# Altium footprint library Connector_PinSocket_1.00mm.PcbLib: 156 footprints (part 6 of 10)
Each footprint in its own frame and in the unit in brackets; x right, y up, seen from the top. Pads: shape width x height; smd on the part's side, far side on the other; paste and mask are expansions set on the pad; w line width, h text height; cw(c..) or ccw(c..) is an arc to the next point about the centre after c.
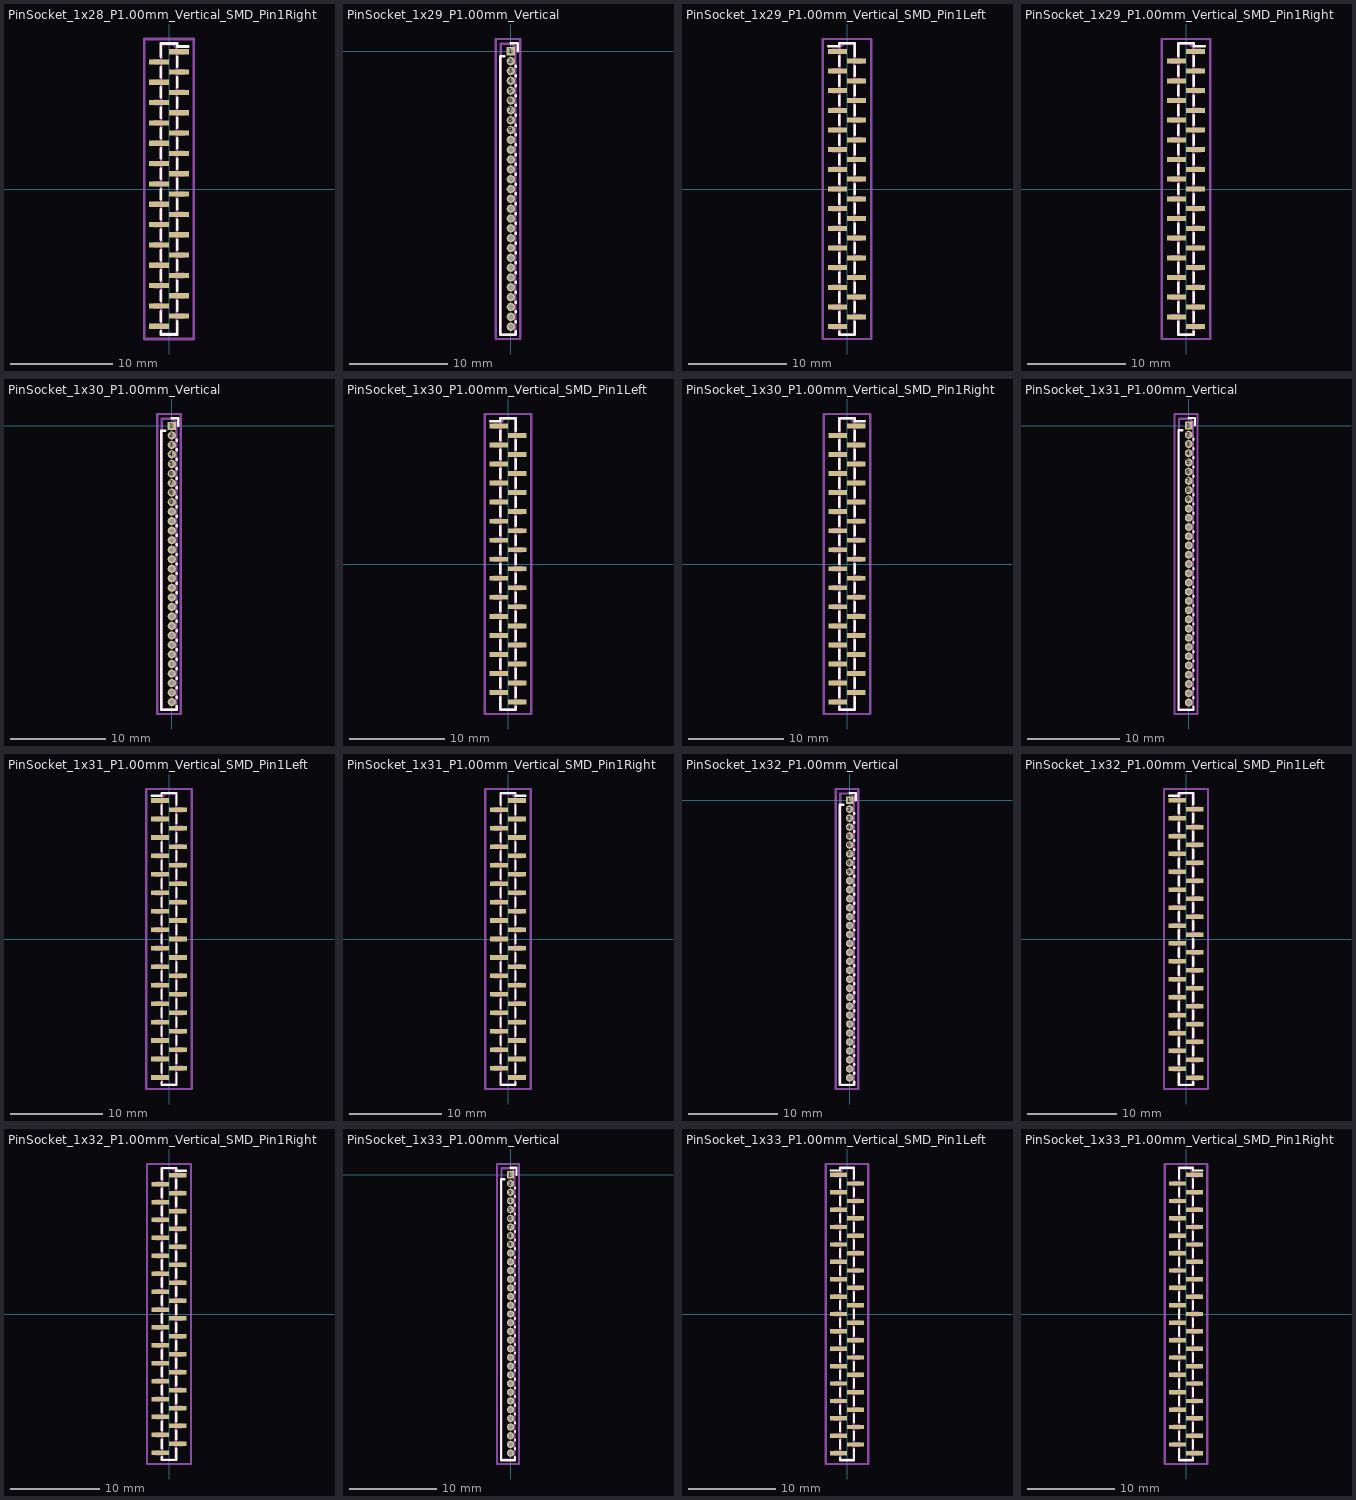
[diagram p5: the footprints below, top view; thin cyan lines are the x and y axes]

## PinSocket_1x28_P1.00mm_Vertical_SMD_Pin1Right [mm]
pads (28):
  rect 1.95x0.5 smd: 1(0.975,13.5) 2(-0.975,12.5) 3(0.975,11.5) 4(-0.975,10.5) 5(0.975,9.5) 6(-0.975,8.5) 7(0.975,7.5) 8(-0.975,6.5) 9(0.975,5.5) 10(-0.975,4.5) 11(0.975,3.5) 12(-0.975,2.5) 13(0.975,1.5) 14(-0.975,0.5) 15(0.975,-0.5) 16(-0.975,-1.5) 17(0.975,-2.5) 18(-0.975,-3.5) 19(0.975,-4.5) 20(-0.975,-5.5) 21(0.975,-6.5) 22(-0.975,-7.5) 23(0.975,-8.5) 24(-0.975,-9.5) 25(0.975,-10.5) 26(-0.975,-11.5) 27(0.975,-12.5) 28(-0.975,-13.5)
F.SilkS:
  lines w0.254: -0.81,-14.01 -0.81,-14.31 0.81,-14.31 0.81,-13.01 ; -0.81,-12.99 -0.81,-12.01 ; -0.81,-10.99 -0.81,-10.01 ; -0.81,-8.99 -0.81,-8.01 ; -0.81,-6.99 -0.81,-6.01 ; -0.81,-4.99 -0.81,-4.01 ; -0.81,-2.99 -0.81,-2.01 ; -0.81,-0.99 -0.81,-0.01 ; -0.81,1.01 -0.81,1.99 ; -0.81,3.01 -0.81,3.99 ; -0.81,5.01 -0.81,5.99 ; -0.81,7.01 -0.81,7.99 ; -0.81,9.01 -0.81,9.99 ; -0.81,11.01 -0.81,11.99 ; -0.81,13.01 -0.81,14.31 0.81,14.31 0.81,14.01 1.89,14.01 ; 0.81,-11.99 0.81,-11.01 ; 0.81,-9.99 0.81,-9.01 ; 0.81,-7.99 0.81,-7.01 ; 0.81,-5.99 0.81,-5.01 ; 0.81,-3.99 0.81,-3.01 ; 0.81,-1.99 0.81,-1.01 ; 0.81,0.01 0.81,0.99 ; 0.81,2.01 0.81,2.99 ; 0.81,4.01 0.81,4.99 ; 0.81,6.01 0.81,6.99 ; 0.81,8.01 0.81,8.99 ; 0.81,10.01 0.81,10.99 ; 0.81,12.01 0.81,12.99
Top Assembly:
  lines w0.254: -0.75,-13.65 -1.45,-13.65 -1.45,-13.35 -0.75,-13.35 ; -0.75,-11.65 -1.45,-11.65 -1.45,-11.35 -0.75,-11.35 ; -0.75,-9.65 -1.45,-9.65 -1.45,-9.35 -0.75,-9.35 ; -0.75,-7.65 -1.45,-7.65 -1.45,-7.35 -0.75,-7.35 ; -0.75,-5.65 -1.45,-5.65 -1.45,-5.35 -0.75,-5.35 ; -0.75,-3.65 -1.45,-3.65 -1.45,-3.35 -0.75,-3.35 ; -0.75,-1.65 -1.45,-1.65 -1.45,-1.35 -0.75,-1.35 ; -0.75,0.35 -1.45,0.35 -1.45,0.65 -0.75,0.65 ; -0.75,2.35 -1.45,2.35 -1.45,2.65 -0.75,2.65 ; -0.75,4.35 -1.45,4.35 -1.45,4.65 -0.75,4.65 ; -0.75,6.35 -1.45,6.35 -1.45,6.65 -0.75,6.65 ; -0.75,8.35 -1.45,8.35 -1.45,8.65 -0.75,8.65 ; -0.75,10.35 -1.45,10.35 -1.45,10.65 -0.75,10.65 ; -0.75,12.35 -1.45,12.35 -1.45,12.65 -0.75,12.65 ; 0.75,-12.65 1.45,-12.65 1.45,-12.35 0.75,-12.35 ; 0.75,-10.65 1.45,-10.65 1.45,-10.35 0.75,-10.35 ; 0.75,-8.65 1.45,-8.65 1.45,-8.35 0.75,-8.35 ; 0.75,-6.65 1.45,-6.65 1.45,-6.35 0.75,-6.35 ; 0.75,-4.65 1.45,-4.65 1.45,-4.35 0.75,-4.35 ; 0.75,-2.65 1.45,-2.65 1.45,-2.35 0.75,-2.35 ; 0.75,-0.65 1.45,-0.65 1.45,-0.35 0.75,-0.35 ; 0.75,1.35 1.45,1.35 1.45,1.65 0.75,1.65 ; 0.75,3.35 1.45,3.35 1.45,3.65 0.75,3.65 ; 0.75,5.35 1.45,5.35 1.45,5.65 0.75,5.65 ; 0.75,7.35 1.45,7.35 1.45,7.65 0.75,7.65 ; 0.75,9.35 1.45,9.35 1.45,9.65 0.75,9.65 ; 0.75,11.35 1.45,11.35 1.45,11.65 0.75,11.65 ; 0.75,13.35 1.45,13.35 1.45,13.65 0.75,13.65 ; -0.75,-14.25 0.75,-14.25 0.75,13.875 0.375,14.25 -0.75,14.25 -0.75,-14.25
  text "'.Designator'" at 0.761,-3.647 h0.9
Top Courtyard:
  lines w0.254: -2.45,-14.75 2.45,-14.75 2.45,14.75 -2.45,14.75 -2.45,-14.75
Top Designator:
  text ".Designator" at -7.618,-0.508 h1.52

## PinSocket_1x29_P1.00mm_Vertical [mm]
pads (29):
  rect 0.85x0.85 hole 0.5: 1(0,0)
  round 0.85 hole 0.5: 2(0,-1) 3(0,-2) 4(0,-3) 5(0,-4) 6(0,-5) 7(0,-6) 8(0,-7) 9(0,-8) 10(0,-9) 11(0,-10) 12(0,-11) 13(0,-12) 14(0,-13) 15(0,-14) 16(0,-15) 17(0,-16) 18(0,-17) 19(0,-18) 20(0,-19) 21(0,-20) 22(0,-21) 23(0,-22) 24(0,-23) 25(0,-24) 26(0,-25) 27(0,-26) 28(0,-27) 29(0,-28)
F.SilkS:
  lines w0.254: -0.685,-0.5 -1.1,-0.5 -1.1,-28.81 0.52,-28.81 0.52,-28.446 ; 0,0.81 0.685,0.81 0.685,0 ; 0.52,-27.554 0.52,-27.446 ; 0.52,-26.554 0.52,-26.446 ; 0.52,-25.554 0.52,-25.446 ; 0.52,-24.554 0.52,-24.446 ; 0.52,-23.554 0.52,-23.446 ; 0.52,-22.554 0.52,-22.446 ; 0.52,-21.554 0.52,-21.446 ; 0.52,-20.554 0.52,-20.446 ; 0.52,-19.554 0.52,-19.446 ; 0.52,-18.554 0.52,-18.446 ; 0.52,-17.554 0.52,-17.446 ; 0.52,-16.554 0.52,-16.446 ; 0.52,-15.554 0.52,-15.446 ; 0.52,-14.554 0.52,-14.446 ; 0.52,-13.554 0.52,-13.446 ; 0.52,-12.554 0.52,-12.446 ; 0.52,-11.554 0.52,-11.446 ; 0.52,-10.554 0.52,-10.446 ; 0.52,-9.554 0.52,-9.446 ; 0.52,-8.554 0.52,-8.446 ; 0.52,-7.554 0.52,-7.446 ; 0.52,-6.554 0.52,-6.446 ; 0.52,-5.554 0.52,-5.446 ; 0.52,-4.554 0.52,-4.446 ; 0.52,-3.554 0.52,-3.446 ; 0.52,-2.554 0.52,-2.446 ; 0.52,-1.554 0.52,-1.446
Top Assembly:
  lines w0.254: -1.04,-28.75 0.46,-28.75 0.46,0.375 0.085,0.75 -1.04,0.75 -1.04,-28.75
  text "'.Designator'" at 0.471,-17.647 h0.9
Top Courtyard:
  lines w0.254: -1.54,-29.25 0.96,-29.25 0.96,1.25 -1.54,1.25 -1.54,-29.25
Top Designator:
  text ".Designator" at -7.908,-14.508 h1.52

## PinSocket_1x29_P1.00mm_Vertical_SMD_Pin1Left [mm]
pads (29):
  rect 1.95x0.5 smd: 1(-0.975,14) 2(0.975,13) 3(-0.975,12) 4(0.975,11) 5(-0.975,10) 6(0.975,9) 7(-0.975,8) 8(0.975,7) 9(-0.975,6) 10(0.975,5) 11(-0.975,4) 12(0.975,3) 13(-0.975,2) 14(0.975,1) 15(-0.975,0) 16(0.975,-1) 17(-0.975,-2) 18(0.975,-3) 19(-0.975,-4) 20(0.975,-5) 21(-0.975,-6) 22(0.975,-7) 23(-0.975,-8) 24(0.975,-9) 25(-0.975,-10) 26(0.975,-11) 27(-0.975,-12) 28(0.975,-13) 29(-0.975,-14)
F.SilkS:
  lines w0.254: -1.89,14.51 -0.81,14.51 -0.81,14.81 0.81,14.81 0.81,13.51 ; -0.81,-14.51 -0.81,-14.81 0.81,-14.81 0.81,-13.51 ; -0.81,-13.49 -0.81,-12.51 ; -0.81,-11.49 -0.81,-10.51 ; -0.81,-9.49 -0.81,-8.51 ; -0.81,-7.49 -0.81,-6.51 ; -0.81,-5.49 -0.81,-4.51 ; -0.81,-3.49 -0.81,-2.51 ; -0.81,-1.49 -0.81,-0.51 ; -0.81,0.51 -0.81,1.49 ; -0.81,2.51 -0.81,3.49 ; -0.81,4.51 -0.81,5.49 ; -0.81,6.51 -0.81,7.49 ; -0.81,8.51 -0.81,9.49 ; -0.81,10.51 -0.81,11.49 ; -0.81,12.51 -0.81,13.49 ; 0.81,-12.49 0.81,-11.51 ; 0.81,-10.49 0.81,-9.51 ; 0.81,-8.49 0.81,-7.51 ; 0.81,-6.49 0.81,-5.51 ; 0.81,-4.49 0.81,-3.51 ; 0.81,-2.49 0.81,-1.51 ; 0.81,-0.49 0.81,0.49 ; 0.81,1.51 0.81,2.49 ; 0.81,3.51 0.81,4.49 ; 0.81,5.51 0.81,6.49 ; 0.81,7.51 0.81,8.49 ; 0.81,9.51 0.81,10.49 ; 0.81,11.51 0.81,12.49
Top Assembly:
  lines w0.254: -0.75,-14.15 -1.45,-14.15 -1.45,-13.85 -0.75,-13.85 ; -0.75,-12.15 -1.45,-12.15 -1.45,-11.85 -0.75,-11.85 ; -0.75,-10.15 -1.45,-10.15 -1.45,-9.85 -0.75,-9.85 ; -0.75,-8.15 -1.45,-8.15 -1.45,-7.85 -0.75,-7.85 ; -0.75,-6.15 -1.45,-6.15 -1.45,-5.85 -0.75,-5.85 ; -0.75,-4.15 -1.45,-4.15 -1.45,-3.85 -0.75,-3.85 ; -0.75,-2.15 -1.45,-2.15 -1.45,-1.85 -0.75,-1.85 ; -0.75,-0.15 -1.45,-0.15 -1.45,0.15 -0.75,0.15 ; -0.75,1.85 -1.45,1.85 -1.45,2.15 -0.75,2.15 ; -0.75,3.85 -1.45,3.85 -1.45,4.15 -0.75,4.15 ; -0.75,5.85 -1.45,5.85 -1.45,6.15 -0.75,6.15 ; -0.75,7.85 -1.45,7.85 -1.45,8.15 -0.75,8.15 ; -0.75,9.85 -1.45,9.85 -1.45,10.15 -0.75,10.15 ; -0.75,11.85 -1.45,11.85 -1.45,12.15 -0.75,12.15 ; -0.75,13.85 -1.45,13.85 -1.45,14.15 -0.75,14.15 ; 0.75,-13.15 1.45,-13.15 1.45,-12.85 0.75,-12.85 ; 0.75,-11.15 1.45,-11.15 1.45,-10.85 0.75,-10.85 ; 0.75,-9.15 1.45,-9.15 1.45,-8.85 0.75,-8.85 ; 0.75,-7.15 1.45,-7.15 1.45,-6.85 0.75,-6.85 ; 0.75,-5.15 1.45,-5.15 1.45,-4.85 0.75,-4.85 ; 0.75,-3.15 1.45,-3.15 1.45,-2.85 0.75,-2.85 ; 0.75,-1.15 1.45,-1.15 1.45,-0.85 0.75,-0.85 ; 0.75,0.85 1.45,0.85 1.45,1.15 0.75,1.15 ; 0.75,2.85 1.45,2.85 1.45,3.15 0.75,3.15 ; 0.75,4.85 1.45,4.85 1.45,5.15 0.75,5.15 ; 0.75,6.85 1.45,6.85 1.45,7.15 0.75,7.15 ; 0.75,8.85 1.45,8.85 1.45,9.15 0.75,9.15 ; 0.75,10.85 1.45,10.85 1.45,11.15 0.75,11.15 ; 0.75,12.85 1.45,12.85 1.45,13.15 0.75,13.15 ; -0.75,-14.75 0.75,-14.75 0.75,14.75 -0.375,14.75 -0.75,14.375 -0.75,-14.75
  text "'.Designator'" at 0.761,-3.647 h0.9
Top Courtyard:
  lines w0.254: -2.45,-15.25 2.45,-15.25 2.45,15.25 -2.45,15.25 -2.45,-15.25
Top Designator:
  text ".Designator" at -7.618,-0.508 h1.52

## PinSocket_1x29_P1.00mm_Vertical_SMD_Pin1Right [mm]
pads (29):
  rect 1.95x0.5 smd: 1(0.975,14) 2(-0.975,13) 3(0.975,12) 4(-0.975,11) 5(0.975,10) 6(-0.975,9) 7(0.975,8) 8(-0.975,7) 9(0.975,6) 10(-0.975,5) 11(0.975,4) 12(-0.975,3) 13(0.975,2) 14(-0.975,1) 15(0.975,0) 16(-0.975,-1) 17(0.975,-2) 18(-0.975,-3) 19(0.975,-4) 20(-0.975,-5) 21(0.975,-6) 22(-0.975,-7) 23(0.975,-8) 24(-0.975,-9) 25(0.975,-10) 26(-0.975,-11) 27(0.975,-12) 28(-0.975,-13) 29(0.975,-14)
F.SilkS:
  lines w0.254: -0.81,-13.51 -0.81,-14.81 0.81,-14.81 0.81,-14.51 ; -0.81,-12.49 -0.81,-11.51 ; -0.81,-10.49 -0.81,-9.51 ; -0.81,-8.49 -0.81,-7.51 ; -0.81,-6.49 -0.81,-5.51 ; -0.81,-4.49 -0.81,-3.51 ; -0.81,-2.49 -0.81,-1.51 ; -0.81,-0.49 -0.81,0.49 ; -0.81,1.51 -0.81,2.49 ; -0.81,3.51 -0.81,4.49 ; -0.81,5.51 -0.81,6.49 ; -0.81,7.51 -0.81,8.49 ; -0.81,9.51 -0.81,10.49 ; -0.81,11.51 -0.81,12.49 ; -0.81,13.51 -0.81,14.81 0.81,14.81 0.81,14.51 1.89,14.51 ; 0.81,-13.49 0.81,-12.51 ; 0.81,-11.49 0.81,-10.51 ; 0.81,-9.49 0.81,-8.51 ; 0.81,-7.49 0.81,-6.51 ; 0.81,-5.49 0.81,-4.51 ; 0.81,-3.49 0.81,-2.51 ; 0.81,-1.49 0.81,-0.51 ; 0.81,0.51 0.81,1.49 ; 0.81,2.51 0.81,3.49 ; 0.81,4.51 0.81,5.49 ; 0.81,6.51 0.81,7.49 ; 0.81,8.51 0.81,9.49 ; 0.81,10.51 0.81,11.49 ; 0.81,12.51 0.81,13.49
Top Assembly:
  lines w0.254: -0.75,-13.15 -1.45,-13.15 -1.45,-12.85 -0.75,-12.85 ; -0.75,-11.15 -1.45,-11.15 -1.45,-10.85 -0.75,-10.85 ; -0.75,-9.15 -1.45,-9.15 -1.45,-8.85 -0.75,-8.85 ; -0.75,-7.15 -1.45,-7.15 -1.45,-6.85 -0.75,-6.85 ; -0.75,-5.15 -1.45,-5.15 -1.45,-4.85 -0.75,-4.85 ; -0.75,-3.15 -1.45,-3.15 -1.45,-2.85 -0.75,-2.85 ; -0.75,-1.15 -1.45,-1.15 -1.45,-0.85 -0.75,-0.85 ; -0.75,0.85 -1.45,0.85 -1.45,1.15 -0.75,1.15 ; -0.75,2.85 -1.45,2.85 -1.45,3.15 -0.75,3.15 ; -0.75,4.85 -1.45,4.85 -1.45,5.15 -0.75,5.15 ; -0.75,6.85 -1.45,6.85 -1.45,7.15 -0.75,7.15 ; -0.75,8.85 -1.45,8.85 -1.45,9.15 -0.75,9.15 ; -0.75,10.85 -1.45,10.85 -1.45,11.15 -0.75,11.15 ; -0.75,12.85 -1.45,12.85 -1.45,13.15 -0.75,13.15 ; 0.75,-14.15 1.45,-14.15 1.45,-13.85 0.75,-13.85 ; 0.75,-12.15 1.45,-12.15 1.45,-11.85 0.75,-11.85 ; 0.75,-10.15 1.45,-10.15 1.45,-9.85 0.75,-9.85 ; 0.75,-8.15 1.45,-8.15 1.45,-7.85 0.75,-7.85 ; 0.75,-6.15 1.45,-6.15 1.45,-5.85 0.75,-5.85 ; 0.75,-4.15 1.45,-4.15 1.45,-3.85 0.75,-3.85 ; 0.75,-2.15 1.45,-2.15 1.45,-1.85 0.75,-1.85 ; 0.75,-0.15 1.45,-0.15 1.45,0.15 0.75,0.15 ; 0.75,1.85 1.45,1.85 1.45,2.15 0.75,2.15 ; 0.75,3.85 1.45,3.85 1.45,4.15 0.75,4.15 ; 0.75,5.85 1.45,5.85 1.45,6.15 0.75,6.15 ; 0.75,7.85 1.45,7.85 1.45,8.15 0.75,8.15 ; 0.75,9.85 1.45,9.85 1.45,10.15 0.75,10.15 ; 0.75,11.85 1.45,11.85 1.45,12.15 0.75,12.15 ; 0.75,13.85 1.45,13.85 1.45,14.15 0.75,14.15 ; -0.75,-14.75 0.75,-14.75 0.75,14.375 0.375,14.75 -0.75,14.75 -0.75,-14.75
  text "'.Designator'" at 0.761,-3.647 h0.9
Top Courtyard:
  lines w0.254: -2.45,-15.25 2.45,-15.25 2.45,15.25 -2.45,15.25 -2.45,-15.25
Top Designator:
  text ".Designator" at -7.618,-0.508 h1.52

## PinSocket_1x30_P1.00mm_Vertical [mm]
pads (30):
  rect 0.85x0.85 hole 0.5: 1(0,0)
  round 0.85 hole 0.5: 2(0,-1) 3(0,-2) 4(0,-3) 5(0,-4) 6(0,-5) 7(0,-6) 8(0,-7) 9(0,-8) 10(0,-9) 11(0,-10) 12(0,-11) 13(0,-12) 14(0,-13) 15(0,-14) 16(0,-15) 17(0,-16) 18(0,-17) 19(0,-18) 20(0,-19) 21(0,-20) 22(0,-21) 23(0,-22) 24(0,-23) 25(0,-24) 26(0,-25) 27(0,-26) 28(0,-27) 29(0,-28) 30(0,-29)
F.SilkS:
  lines w0.254: -0.685,-0.5 -1.1,-0.5 -1.1,-29.81 0.52,-29.81 0.52,-29.446 ; 0,0.81 0.685,0.81 0.685,0 ; 0.52,-28.554 0.52,-28.446 ; 0.52,-27.554 0.52,-27.446 ; 0.52,-26.554 0.52,-26.446 ; 0.52,-25.554 0.52,-25.446 ; 0.52,-24.554 0.52,-24.446 ; 0.52,-23.554 0.52,-23.446 ; 0.52,-22.554 0.52,-22.446 ; 0.52,-21.554 0.52,-21.446 ; 0.52,-20.554 0.52,-20.446 ; 0.52,-19.554 0.52,-19.446 ; 0.52,-18.554 0.52,-18.446 ; 0.52,-17.554 0.52,-17.446 ; 0.52,-16.554 0.52,-16.446 ; 0.52,-15.554 0.52,-15.446 ; 0.52,-14.554 0.52,-14.446 ; 0.52,-13.554 0.52,-13.446 ; 0.52,-12.554 0.52,-12.446 ; 0.52,-11.554 0.52,-11.446 ; 0.52,-10.554 0.52,-10.446 ; 0.52,-9.554 0.52,-9.446 ; 0.52,-8.554 0.52,-8.446 ; 0.52,-7.554 0.52,-7.446 ; 0.52,-6.554 0.52,-6.446 ; 0.52,-5.554 0.52,-5.446 ; 0.52,-4.554 0.52,-4.446 ; 0.52,-3.554 0.52,-3.446 ; 0.52,-2.554 0.52,-2.446 ; 0.52,-1.554 0.52,-1.446
Top Assembly:
  lines w0.254: -1.04,-29.75 0.46,-29.75 0.46,0.375 0.085,0.75 -1.04,0.75 -1.04,-29.75
  text "'.Designator'" at 0.471,-18.147 h0.9
Top Courtyard:
  lines w0.254: -1.54,-30.25 0.96,-30.25 0.96,1.25 -1.54,1.25 -1.54,-30.25
Top Designator:
  text ".Designator" at -7.908,-15.008 h1.52

## PinSocket_1x30_P1.00mm_Vertical_SMD_Pin1Left [mm]
pads (30):
  rect 1.95x0.5 smd: 1(-0.975,14.5) 2(0.975,13.5) 3(-0.975,12.5) 4(0.975,11.5) 5(-0.975,10.5) 6(0.975,9.5) 7(-0.975,8.5) 8(0.975,7.5) 9(-0.975,6.5) 10(0.975,5.5) 11(-0.975,4.5) 12(0.975,3.5) 13(-0.975,2.5) 14(0.975,1.5) 15(-0.975,0.5) 16(0.975,-0.5) 17(-0.975,-1.5) 18(0.975,-2.5) 19(-0.975,-3.5) 20(0.975,-4.5) 21(-0.975,-5.5) 22(0.975,-6.5) 23(-0.975,-7.5) 24(0.975,-8.5) 25(-0.975,-9.5) 26(0.975,-10.5) 27(-0.975,-11.5) 28(0.975,-12.5) 29(-0.975,-13.5) 30(0.975,-14.5)
F.SilkS:
  lines w0.254: -1.89,15.01 -0.81,15.01 -0.81,15.31 0.81,15.31 0.81,14.01 ; -0.81,-14.01 -0.81,-15.31 0.81,-15.31 0.81,-15.01 ; -0.81,-12.99 -0.81,-12.01 ; -0.81,-10.99 -0.81,-10.01 ; -0.81,-8.99 -0.81,-8.01 ; -0.81,-6.99 -0.81,-6.01 ; -0.81,-4.99 -0.81,-4.01 ; -0.81,-2.99 -0.81,-2.01 ; -0.81,-0.99 -0.81,-0.01 ; -0.81,1.01 -0.81,1.99 ; -0.81,3.01 -0.81,3.99 ; -0.81,5.01 -0.81,5.99 ; -0.81,7.01 -0.81,7.99 ; -0.81,9.01 -0.81,9.99 ; -0.81,11.01 -0.81,11.99 ; -0.81,13.01 -0.81,13.99 ; 0.81,-13.99 0.81,-13.01 ; 0.81,-11.99 0.81,-11.01 ; 0.81,-9.99 0.81,-9.01 ; 0.81,-7.99 0.81,-7.01 ; 0.81,-5.99 0.81,-5.01 ; 0.81,-3.99 0.81,-3.01 ; 0.81,-1.99 0.81,-1.01 ; 0.81,0.01 0.81,0.99 ; 0.81,2.01 0.81,2.99 ; 0.81,4.01 0.81,4.99 ; 0.81,6.01 0.81,6.99 ; 0.81,8.01 0.81,8.99 ; 0.81,10.01 0.81,10.99 ; 0.81,12.01 0.81,12.99
Top Assembly:
  lines w0.254: -0.75,-13.65 -1.45,-13.65 -1.45,-13.35 -0.75,-13.35 ; -0.75,-11.65 -1.45,-11.65 -1.45,-11.35 -0.75,-11.35 ; -0.75,-9.65 -1.45,-9.65 -1.45,-9.35 -0.75,-9.35 ; -0.75,-7.65 -1.45,-7.65 -1.45,-7.35 -0.75,-7.35 ; -0.75,-5.65 -1.45,-5.65 -1.45,-5.35 -0.75,-5.35 ; -0.75,-3.65 -1.45,-3.65 -1.45,-3.35 -0.75,-3.35 ; -0.75,-1.65 -1.45,-1.65 -1.45,-1.35 -0.75,-1.35 ; -0.75,0.35 -1.45,0.35 -1.45,0.65 -0.75,0.65 ; -0.75,2.35 -1.45,2.35 -1.45,2.65 -0.75,2.65 ; -0.75,4.35 -1.45,4.35 -1.45,4.65 -0.75,4.65 ; -0.75,6.35 -1.45,6.35 -1.45,6.65 -0.75,6.65 ; -0.75,8.35 -1.45,8.35 -1.45,8.65 -0.75,8.65 ; -0.75,10.35 -1.45,10.35 -1.45,10.65 -0.75,10.65 ; -0.75,12.35 -1.45,12.35 -1.45,12.65 -0.75,12.65 ; -0.75,14.35 -1.45,14.35 -1.45,14.65 -0.75,14.65 ; 0.75,-14.65 1.45,-14.65 1.45,-14.35 0.75,-14.35 ; 0.75,-12.65 1.45,-12.65 1.45,-12.35 0.75,-12.35 ; 0.75,-10.65 1.45,-10.65 1.45,-10.35 0.75,-10.35 ; 0.75,-8.65 1.45,-8.65 1.45,-8.35 0.75,-8.35 ; 0.75,-6.65 1.45,-6.65 1.45,-6.35 0.75,-6.35 ; 0.75,-4.65 1.45,-4.65 1.45,-4.35 0.75,-4.35 ; 0.75,-2.65 1.45,-2.65 1.45,-2.35 0.75,-2.35 ; 0.75,-0.65 1.45,-0.65 1.45,-0.35 0.75,-0.35 ; 0.75,1.35 1.45,1.35 1.45,1.65 0.75,1.65 ; 0.75,3.35 1.45,3.35 1.45,3.65 0.75,3.65 ; 0.75,5.35 1.45,5.35 1.45,5.65 0.75,5.65 ; 0.75,7.35 1.45,7.35 1.45,7.65 0.75,7.65 ; 0.75,9.35 1.45,9.35 1.45,9.65 0.75,9.65 ; 0.75,11.35 1.45,11.35 1.45,11.65 0.75,11.65 ; 0.75,13.35 1.45,13.35 1.45,13.65 0.75,13.65 ; -0.75,-15.25 0.75,-15.25 0.75,15.25 -0.375,15.25 -0.75,14.875 -0.75,-15.25
  text "'.Designator'" at 0.761,-3.647 h0.9
Top Courtyard:
  lines w0.254: -2.45,-15.75 2.45,-15.75 2.45,15.75 -2.45,15.75 -2.45,-15.75
Top Designator:
  text ".Designator" at -7.618,-0.508 h1.52

## PinSocket_1x30_P1.00mm_Vertical_SMD_Pin1Right [mm]
pads (30):
  rect 1.95x0.5 smd: 1(0.975,14.5) 2(-0.975,13.5) 3(0.975,12.5) 4(-0.975,11.5) 5(0.975,10.5) 6(-0.975,9.5) 7(0.975,8.5) 8(-0.975,7.5) 9(0.975,6.5) 10(-0.975,5.5) 11(0.975,4.5) 12(-0.975,3.5) 13(0.975,2.5) 14(-0.975,1.5) 15(0.975,0.5) 16(-0.975,-0.5) 17(0.975,-1.5) 18(-0.975,-2.5) 19(0.975,-3.5) 20(-0.975,-4.5) 21(0.975,-5.5) 22(-0.975,-6.5) 23(0.975,-7.5) 24(-0.975,-8.5) 25(0.975,-9.5) 26(-0.975,-10.5) 27(0.975,-11.5) 28(-0.975,-12.5) 29(0.975,-13.5) 30(-0.975,-14.5)
F.SilkS:
  lines w0.254: -0.81,-15.01 -0.81,-15.31 0.81,-15.31 0.81,-14.01 ; -0.81,-13.99 -0.81,-13.01 ; -0.81,-11.99 -0.81,-11.01 ; -0.81,-9.99 -0.81,-9.01 ; -0.81,-7.99 -0.81,-7.01 ; -0.81,-5.99 -0.81,-5.01 ; -0.81,-3.99 -0.81,-3.01 ; -0.81,-1.99 -0.81,-1.01 ; -0.81,0.01 -0.81,0.99 ; -0.81,2.01 -0.81,2.99 ; -0.81,4.01 -0.81,4.99 ; -0.81,6.01 -0.81,6.99 ; -0.81,8.01 -0.81,8.99 ; -0.81,10.01 -0.81,10.99 ; -0.81,12.01 -0.81,12.99 ; -0.81,14.01 -0.81,15.31 0.81,15.31 0.81,15.01 1.89,15.01 ; 0.81,-12.99 0.81,-12.01 ; 0.81,-10.99 0.81,-10.01 ; 0.81,-8.99 0.81,-8.01 ; 0.81,-6.99 0.81,-6.01 ; 0.81,-4.99 0.81,-4.01 ; 0.81,-2.99 0.81,-2.01 ; 0.81,-0.99 0.81,-0.01 ; 0.81,1.01 0.81,1.99 ; 0.81,3.01 0.81,3.99 ; 0.81,5.01 0.81,5.99 ; 0.81,7.01 0.81,7.99 ; 0.81,9.01 0.81,9.99 ; 0.81,11.01 0.81,11.99 ; 0.81,13.01 0.81,13.99
Top Assembly:
  lines w0.254: -0.75,-14.65 -1.45,-14.65 -1.45,-14.35 -0.75,-14.35 ; -0.75,-12.65 -1.45,-12.65 -1.45,-12.35 -0.75,-12.35 ; -0.75,-10.65 -1.45,-10.65 -1.45,-10.35 -0.75,-10.35 ; -0.75,-8.65 -1.45,-8.65 -1.45,-8.35 -0.75,-8.35 ; -0.75,-6.65 -1.45,-6.65 -1.45,-6.35 -0.75,-6.35 ; -0.75,-4.65 -1.45,-4.65 -1.45,-4.35 -0.75,-4.35 ; -0.75,-2.65 -1.45,-2.65 -1.45,-2.35 -0.75,-2.35 ; -0.75,-0.65 -1.45,-0.65 -1.45,-0.35 -0.75,-0.35 ; -0.75,1.35 -1.45,1.35 -1.45,1.65 -0.75,1.65 ; -0.75,3.35 -1.45,3.35 -1.45,3.65 -0.75,3.65 ; -0.75,5.35 -1.45,5.35 -1.45,5.65 -0.75,5.65 ; -0.75,7.35 -1.45,7.35 -1.45,7.65 -0.75,7.65 ; -0.75,9.35 -1.45,9.35 -1.45,9.65 -0.75,9.65 ; -0.75,11.35 -1.45,11.35 -1.45,11.65 -0.75,11.65 ; -0.75,13.35 -1.45,13.35 -1.45,13.65 -0.75,13.65 ; 0.75,-13.65 1.45,-13.65 1.45,-13.35 0.75,-13.35 ; 0.75,-11.65 1.45,-11.65 1.45,-11.35 0.75,-11.35 ; 0.75,-9.65 1.45,-9.65 1.45,-9.35 0.75,-9.35 ; 0.75,-7.65 1.45,-7.65 1.45,-7.35 0.75,-7.35 ; 0.75,-5.65 1.45,-5.65 1.45,-5.35 0.75,-5.35 ; 0.75,-3.65 1.45,-3.65 1.45,-3.35 0.75,-3.35 ; 0.75,-1.65 1.45,-1.65 1.45,-1.35 0.75,-1.35 ; 0.75,0.35 1.45,0.35 1.45,0.65 0.75,0.65 ; 0.75,2.35 1.45,2.35 1.45,2.65 0.75,2.65 ; 0.75,4.35 1.45,4.35 1.45,4.65 0.75,4.65 ; 0.75,6.35 1.45,6.35 1.45,6.65 0.75,6.65 ; 0.75,8.35 1.45,8.35 1.45,8.65 0.75,8.65 ; 0.75,10.35 1.45,10.35 1.45,10.65 0.75,10.65 ; 0.75,12.35 1.45,12.35 1.45,12.65 0.75,12.65 ; 0.75,14.35 1.45,14.35 1.45,14.65 0.75,14.65 ; -0.75,-15.25 0.75,-15.25 0.75,14.875 0.375,15.25 -0.75,15.25 -0.75,-15.25
  text "'.Designator'" at 0.761,-3.647 h0.9
Top Courtyard:
  lines w0.254: -2.45,-15.75 2.45,-15.75 2.45,15.75 -2.45,15.75 -2.45,-15.75
Top Designator:
  text ".Designator" at -7.618,-0.508 h1.52

## PinSocket_1x31_P1.00mm_Vertical [mm]
pads (31):
  rect 0.85x0.85 hole 0.5: 1(0,0)
  round 0.85 hole 0.5: 2(0,-1) 3(0,-2) 4(0,-3) 5(0,-4) 6(0,-5) 7(0,-6) 8(0,-7) 9(0,-8) 10(0,-9) 11(0,-10) 12(0,-11) 13(0,-12) 14(0,-13) 15(0,-14) 16(0,-15) 17(0,-16) 18(0,-17) 19(0,-18) 20(0,-19) 21(0,-20) 22(0,-21) 23(0,-22) 24(0,-23) 25(0,-24) 26(0,-25) 27(0,-26) 28(0,-27) 29(0,-28) 30(0,-29) 31(0,-30)
F.SilkS:
  lines w0.254: -0.685,-0.5 -1.1,-0.5 -1.1,-30.81 0.52,-30.81 0.52,-30.446 ; 0,0.81 0.685,0.81 0.685,0 ; 0.52,-29.554 0.52,-29.446 ; 0.52,-28.554 0.52,-28.446 ; 0.52,-27.554 0.52,-27.446 ; 0.52,-26.554 0.52,-26.446 ; 0.52,-25.554 0.52,-25.446 ; 0.52,-24.554 0.52,-24.446 ; 0.52,-23.554 0.52,-23.446 ; 0.52,-22.554 0.52,-22.446 ; 0.52,-21.554 0.52,-21.446 ; 0.52,-20.554 0.52,-20.446 ; 0.52,-19.554 0.52,-19.446 ; 0.52,-18.554 0.52,-18.446 ; 0.52,-17.554 0.52,-17.446 ; 0.52,-16.554 0.52,-16.446 ; 0.52,-15.554 0.52,-15.446 ; 0.52,-14.554 0.52,-14.446 ; 0.52,-13.554 0.52,-13.446 ; 0.52,-12.554 0.52,-12.446 ; 0.52,-11.554 0.52,-11.446 ; 0.52,-10.554 0.52,-10.446 ; 0.52,-9.554 0.52,-9.446 ; 0.52,-8.554 0.52,-8.446 ; 0.52,-7.554 0.52,-7.446 ; 0.52,-6.554 0.52,-6.446 ; 0.52,-5.554 0.52,-5.446 ; 0.52,-4.554 0.52,-4.446 ; 0.52,-3.554 0.52,-3.446 ; 0.52,-2.554 0.52,-2.446 ; 0.52,-1.554 0.52,-1.446
Top Assembly:
  lines w0.254: -1.04,-30.75 0.46,-30.75 0.46,0.375 0.085,0.75 -1.04,0.75 -1.04,-30.75
  text "'.Designator'" at 0.471,-18.647 h0.9
Top Courtyard:
  lines w0.254: -1.54,-31.25 0.96,-31.25 0.96,1.25 -1.54,1.25 -1.54,-31.25
Top Designator:
  text ".Designator" at -7.908,-15.508 h1.52

## PinSocket_1x31_P1.00mm_Vertical_SMD_Pin1Left [mm]
pads (31):
  rect 1.95x0.5 smd: 1(-0.975,15) 2(0.975,14) 3(-0.975,13) 4(0.975,12) 5(-0.975,11) 6(0.975,10) 7(-0.975,9) 8(0.975,8) 9(-0.975,7) 10(0.975,6) 11(-0.975,5) 12(0.975,4) 13(-0.975,3) 14(0.975,2) 15(-0.975,1) 16(0.975,0) 17(-0.975,-1) 18(0.975,-2) 19(-0.975,-3) 20(0.975,-4) 21(-0.975,-5) 22(0.975,-6) 23(-0.975,-7) 24(0.975,-8) 25(-0.975,-9) 26(0.975,-10) 27(-0.975,-11) 28(0.975,-12) 29(-0.975,-13) 30(0.975,-14) 31(-0.975,-15)
F.SilkS:
  lines w0.254: -1.89,15.51 -0.81,15.51 -0.81,15.81 0.81,15.81 0.81,14.51 ; -0.81,-15.51 -0.81,-15.81 0.81,-15.81 0.81,-14.51 ; -0.81,-14.49 -0.81,-13.51 ; -0.81,-12.49 -0.81,-11.51 ; -0.81,-10.49 -0.81,-9.51 ; -0.81,-8.49 -0.81,-7.51 ; -0.81,-6.49 -0.81,-5.51 ; -0.81,-4.49 -0.81,-3.51 ; -0.81,-2.49 -0.81,-1.51 ; -0.81,-0.49 -0.81,0.49 ; -0.81,1.51 -0.81,2.49 ; -0.81,3.51 -0.81,4.49 ; -0.81,5.51 -0.81,6.49 ; -0.81,7.51 -0.81,8.49 ; -0.81,9.51 -0.81,10.49 ; -0.81,11.51 -0.81,12.49 ; -0.81,13.51 -0.81,14.49 ; 0.81,-13.49 0.81,-12.51 ; 0.81,-11.49 0.81,-10.51 ; 0.81,-9.49 0.81,-8.51 ; 0.81,-7.49 0.81,-6.51 ; 0.81,-5.49 0.81,-4.51 ; 0.81,-3.49 0.81,-2.51 ; 0.81,-1.49 0.81,-0.51 ; 0.81,0.51 0.81,1.49 ; 0.81,2.51 0.81,3.49 ; 0.81,4.51 0.81,5.49 ; 0.81,6.51 0.81,7.49 ; 0.81,8.51 0.81,9.49 ; 0.81,10.51 0.81,11.49 ; 0.81,12.51 0.81,13.49
Top Assembly:
  lines w0.254: -0.75,-15.15 -1.45,-15.15 -1.45,-14.85 -0.75,-14.85 ; -0.75,-13.15 -1.45,-13.15 -1.45,-12.85 -0.75,-12.85 ; -0.75,-11.15 -1.45,-11.15 -1.45,-10.85 -0.75,-10.85 ; -0.75,-9.15 -1.45,-9.15 -1.45,-8.85 -0.75,-8.85 ; -0.75,-7.15 -1.45,-7.15 -1.45,-6.85 -0.75,-6.85 ; -0.75,-5.15 -1.45,-5.15 -1.45,-4.85 -0.75,-4.85 ; -0.75,-3.15 -1.45,-3.15 -1.45,-2.85 -0.75,-2.85 ; -0.75,-1.15 -1.45,-1.15 -1.45,-0.85 -0.75,-0.85 ; -0.75,0.85 -1.45,0.85 -1.45,1.15 -0.75,1.15 ; -0.75,2.85 -1.45,2.85 -1.45,3.15 -0.75,3.15 ; -0.75,4.85 -1.45,4.85 -1.45,5.15 -0.75,5.15 ; -0.75,6.85 -1.45,6.85 -1.45,7.15 -0.75,7.15 ; -0.75,8.85 -1.45,8.85 -1.45,9.15 -0.75,9.15 ; -0.75,10.85 -1.45,10.85 -1.45,11.15 -0.75,11.15 ; -0.75,12.85 -1.45,12.85 -1.45,13.15 -0.75,13.15 ; -0.75,14.85 -1.45,14.85 -1.45,15.15 -0.75,15.15 ; 0.75,-14.15 1.45,-14.15 1.45,-13.85 0.75,-13.85 ; 0.75,-12.15 1.45,-12.15 1.45,-11.85 0.75,-11.85 ; 0.75,-10.15 1.45,-10.15 1.45,-9.85 0.75,-9.85 ; 0.75,-8.15 1.45,-8.15 1.45,-7.85 0.75,-7.85 ; 0.75,-6.15 1.45,-6.15 1.45,-5.85 0.75,-5.85 ; 0.75,-4.15 1.45,-4.15 1.45,-3.85 0.75,-3.85 ; 0.75,-2.15 1.45,-2.15 1.45,-1.85 0.75,-1.85 ; 0.75,-0.15 1.45,-0.15 1.45,0.15 0.75,0.15 ; 0.75,1.85 1.45,1.85 1.45,2.15 0.75,2.15 ; 0.75,3.85 1.45,3.85 1.45,4.15 0.75,4.15 ; 0.75,5.85 1.45,5.85 1.45,6.15 0.75,6.15 ; 0.75,7.85 1.45,7.85 1.45,8.15 0.75,8.15 ; 0.75,9.85 1.45,9.85 1.45,10.15 0.75,10.15 ; 0.75,11.85 1.45,11.85 1.45,12.15 0.75,12.15 ; 0.75,13.85 1.45,13.85 1.45,14.15 0.75,14.15 ; -0.75,-15.75 0.75,-15.75 0.75,15.75 -0.375,15.75 -0.75,15.375 -0.75,-15.75
  text "'.Designator'" at 0.761,-3.647 h0.9
Top Courtyard:
  lines w0.254: -2.45,-16.25 2.45,-16.25 2.45,16.25 -2.45,16.25 -2.45,-16.25
Top Designator:
  text ".Designator" at -7.618,-0.508 h1.52

## PinSocket_1x31_P1.00mm_Vertical_SMD_Pin1Right [mm]
pads (31):
  rect 1.95x0.5 smd: 1(0.975,15) 2(-0.975,14) 3(0.975,13) 4(-0.975,12) 5(0.975,11) 6(-0.975,10) 7(0.975,9) 8(-0.975,8) 9(0.975,7) 10(-0.975,6) 11(0.975,5) 12(-0.975,4) 13(0.975,3) 14(-0.975,2) 15(0.975,1) 16(-0.975,0) 17(0.975,-1) 18(-0.975,-2) 19(0.975,-3) 20(-0.975,-4) 21(0.975,-5) 22(-0.975,-6) 23(0.975,-7) 24(-0.975,-8) 25(0.975,-9) 26(-0.975,-10) 27(0.975,-11) 28(-0.975,-12) 29(0.975,-13) 30(-0.975,-14) 31(0.975,-15)
F.SilkS:
  lines w0.254: -0.81,-14.51 -0.81,-15.81 0.81,-15.81 0.81,-15.51 ; -0.81,-13.49 -0.81,-12.51 ; -0.81,-11.49 -0.81,-10.51 ; -0.81,-9.49 -0.81,-8.51 ; -0.81,-7.49 -0.81,-6.51 ; -0.81,-5.49 -0.81,-4.51 ; -0.81,-3.49 -0.81,-2.51 ; -0.81,-1.49 -0.81,-0.51 ; -0.81,0.51 -0.81,1.49 ; -0.81,2.51 -0.81,3.49 ; -0.81,4.51 -0.81,5.49 ; -0.81,6.51 -0.81,7.49 ; -0.81,8.51 -0.81,9.49 ; -0.81,10.51 -0.81,11.49 ; -0.81,12.51 -0.81,13.49 ; -0.81,14.51 -0.81,15.81 0.81,15.81 0.81,15.51 1.89,15.51 ; 0.81,-14.49 0.81,-13.51 ; 0.81,-12.49 0.81,-11.51 ; 0.81,-10.49 0.81,-9.51 ; 0.81,-8.49 0.81,-7.51 ; 0.81,-6.49 0.81,-5.51 ; 0.81,-4.49 0.81,-3.51 ; 0.81,-2.49 0.81,-1.51 ; 0.81,-0.49 0.81,0.49 ; 0.81,1.51 0.81,2.49 ; 0.81,3.51 0.81,4.49 ; 0.81,5.51 0.81,6.49 ; 0.81,7.51 0.81,8.49 ; 0.81,9.51 0.81,10.49 ; 0.81,11.51 0.81,12.49 ; 0.81,13.51 0.81,14.49
Top Assembly:
  lines w0.254: -0.75,-14.15 -1.45,-14.15 -1.45,-13.85 -0.75,-13.85 ; -0.75,-12.15 -1.45,-12.15 -1.45,-11.85 -0.75,-11.85 ; -0.75,-10.15 -1.45,-10.15 -1.45,-9.85 -0.75,-9.85 ; -0.75,-8.15 -1.45,-8.15 -1.45,-7.85 -0.75,-7.85 ; -0.75,-6.15 -1.45,-6.15 -1.45,-5.85 -0.75,-5.85 ; -0.75,-4.15 -1.45,-4.15 -1.45,-3.85 -0.75,-3.85 ; -0.75,-2.15 -1.45,-2.15 -1.45,-1.85 -0.75,-1.85 ; -0.75,-0.15 -1.45,-0.15 -1.45,0.15 -0.75,0.15 ; -0.75,1.85 -1.45,1.85 -1.45,2.15 -0.75,2.15 ; -0.75,3.85 -1.45,3.85 -1.45,4.15 -0.75,4.15 ; -0.75,5.85 -1.45,5.85 -1.45,6.15 -0.75,6.15 ; -0.75,7.85 -1.45,7.85 -1.45,8.15 -0.75,8.15 ; -0.75,9.85 -1.45,9.85 -1.45,10.15 -0.75,10.15 ; -0.75,11.85 -1.45,11.85 -1.45,12.15 -0.75,12.15 ; -0.75,13.85 -1.45,13.85 -1.45,14.15 -0.75,14.15 ; 0.75,-15.15 1.45,-15.15 1.45,-14.85 0.75,-14.85 ; 0.75,-13.15 1.45,-13.15 1.45,-12.85 0.75,-12.85 ; 0.75,-11.15 1.45,-11.15 1.45,-10.85 0.75,-10.85 ; 0.75,-9.15 1.45,-9.15 1.45,-8.85 0.75,-8.85 ; 0.75,-7.15 1.45,-7.15 1.45,-6.85 0.75,-6.85 ; 0.75,-5.15 1.45,-5.15 1.45,-4.85 0.75,-4.85 ; 0.75,-3.15 1.45,-3.15 1.45,-2.85 0.75,-2.85 ; 0.75,-1.15 1.45,-1.15 1.45,-0.85 0.75,-0.85 ; 0.75,0.85 1.45,0.85 1.45,1.15 0.75,1.15 ; 0.75,2.85 1.45,2.85 1.45,3.15 0.75,3.15 ; 0.75,4.85 1.45,4.85 1.45,5.15 0.75,5.15 ; 0.75,6.85 1.45,6.85 1.45,7.15 0.75,7.15 ; 0.75,8.85 1.45,8.85 1.45,9.15 0.75,9.15 ; 0.75,10.85 1.45,10.85 1.45,11.15 0.75,11.15 ; 0.75,12.85 1.45,12.85 1.45,13.15 0.75,13.15 ; 0.75,14.85 1.45,14.85 1.45,15.15 0.75,15.15 ; -0.75,-15.75 0.75,-15.75 0.75,15.375 0.375,15.75 -0.75,15.75 -0.75,-15.75
  text "'.Designator'" at 0.761,-3.647 h0.9
Top Courtyard:
  lines w0.254: -2.45,-16.25 2.45,-16.25 2.45,16.25 -2.45,16.25 -2.45,-16.25
Top Designator:
  text ".Designator" at -7.618,-0.508 h1.52

## PinSocket_1x32_P1.00mm_Vertical [mm]
pads (32):
  rect 0.85x0.85 hole 0.5: 1(0,0)
  round 0.85 hole 0.5: 2(0,-1) 3(0,-2) 4(0,-3) 5(0,-4) 6(0,-5) 7(0,-6) 8(0,-7) 9(0,-8) 10(0,-9) 11(0,-10) 12(0,-11) 13(0,-12) 14(0,-13) 15(0,-14) 16(0,-15) 17(0,-16) 18(0,-17) 19(0,-18) 20(0,-19) 21(0,-20) 22(0,-21) 23(0,-22) 24(0,-23) 25(0,-24) 26(0,-25) 27(0,-26) 28(0,-27) 29(0,-28) 30(0,-29) 31(0,-30) 32(0,-31)
F.SilkS:
  lines w0.254: -0.685,-0.5 -1.1,-0.5 -1.1,-31.81 0.52,-31.81 0.52,-31.446 ; 0,0.81 0.685,0.81 0.685,0 ; 0.52,-30.554 0.52,-30.446 ; 0.52,-29.554 0.52,-29.446 ; 0.52,-28.554 0.52,-28.446 ; 0.52,-27.554 0.52,-27.446 ; 0.52,-26.554 0.52,-26.446 ; 0.52,-25.554 0.52,-25.446 ; 0.52,-24.554 0.52,-24.446 ; 0.52,-23.554 0.52,-23.446 ; 0.52,-22.554 0.52,-22.446 ; 0.52,-21.554 0.52,-21.446 ; 0.52,-20.554 0.52,-20.446 ; 0.52,-19.554 0.52,-19.446 ; 0.52,-18.554 0.52,-18.446 ; 0.52,-17.554 0.52,-17.446 ; 0.52,-16.554 0.52,-16.446 ; 0.52,-15.554 0.52,-15.446 ; 0.52,-14.554 0.52,-14.446 ; 0.52,-13.554 0.52,-13.446 ; 0.52,-12.554 0.52,-12.446 ; 0.52,-11.554 0.52,-11.446 ; 0.52,-10.554 0.52,-10.446 ; 0.52,-9.554 0.52,-9.446 ; 0.52,-8.554 0.52,-8.446 ; 0.52,-7.554 0.52,-7.446 ; 0.52,-6.554 0.52,-6.446 ; 0.52,-5.554 0.52,-5.446 ; 0.52,-4.554 0.52,-4.446 ; 0.52,-3.554 0.52,-3.446 ; 0.52,-2.554 0.52,-2.446 ; 0.52,-1.554 0.52,-1.446
Top Assembly:
  lines w0.254: -1.04,-31.75 0.46,-31.75 0.46,0.375 0.085,0.75 -1.04,0.75 -1.04,-31.75
  text "'.Designator'" at 0.471,-19.147 h0.9
Top Courtyard:
  lines w0.254: -1.54,-32.25 0.96,-32.25 0.96,1.25 -1.54,1.25 -1.54,-32.25
Top Designator:
  text ".Designator" at -7.908,-16.008 h1.52

## PinSocket_1x32_P1.00mm_Vertical_SMD_Pin1Left [mm]
pads (32):
  rect 1.95x0.5 smd: 1(-0.975,15.5) 2(0.975,14.5) 3(-0.975,13.5) 4(0.975,12.5) 5(-0.975,11.5) 6(0.975,10.5) 7(-0.975,9.5) 8(0.975,8.5) 9(-0.975,7.5) 10(0.975,6.5) 11(-0.975,5.5) 12(0.975,4.5) 13(-0.975,3.5) 14(0.975,2.5) 15(-0.975,1.5) 16(0.975,0.5) 17(-0.975,-0.5) 18(0.975,-1.5) 19(-0.975,-2.5) 20(0.975,-3.5) 21(-0.975,-4.5) 22(0.975,-5.5) 23(-0.975,-6.5) 24(0.975,-7.5) 25(-0.975,-8.5) 26(0.975,-9.5) 27(-0.975,-10.5) 28(0.975,-11.5) 29(-0.975,-12.5) 30(0.975,-13.5) 31(-0.975,-14.5) 32(0.975,-15.5)
F.SilkS:
  lines w0.254: -1.89,16.01 -0.81,16.01 -0.81,16.31 0.81,16.31 0.81,15.01 ; -0.81,-15.01 -0.81,-16.31 0.81,-16.31 0.81,-16.01 ; -0.81,-13.99 -0.81,-13.01 ; -0.81,-11.99 -0.81,-11.01 ; -0.81,-9.99 -0.81,-9.01 ; -0.81,-7.99 -0.81,-7.01 ; -0.81,-5.99 -0.81,-5.01 ; -0.81,-3.99 -0.81,-3.01 ; -0.81,-1.99 -0.81,-1.01 ; -0.81,0.01 -0.81,0.99 ; -0.81,2.01 -0.81,2.99 ; -0.81,4.01 -0.81,4.99 ; -0.81,6.01 -0.81,6.99 ; -0.81,8.01 -0.81,8.99 ; -0.81,10.01 -0.81,10.99 ; -0.81,12.01 -0.81,12.99 ; -0.81,14.01 -0.81,14.99 ; 0.81,-14.99 0.81,-14.01 ; 0.81,-12.99 0.81,-12.01 ; 0.81,-10.99 0.81,-10.01 ; 0.81,-8.99 0.81,-8.01 ; 0.81,-6.99 0.81,-6.01 ; 0.81,-4.99 0.81,-4.01 ; 0.81,-2.99 0.81,-2.01 ; 0.81,-0.99 0.81,-0.01 ; 0.81,1.01 0.81,1.99 ; 0.81,3.01 0.81,3.99 ; 0.81,5.01 0.81,5.99 ; 0.81,7.01 0.81,7.99 ; 0.81,9.01 0.81,9.99 ; 0.81,11.01 0.81,11.99 ; 0.81,13.01 0.81,13.99
Top Assembly:
  lines w0.254: -0.75,-14.65 -1.45,-14.65 -1.45,-14.35 -0.75,-14.35 ; -0.75,-12.65 -1.45,-12.65 -1.45,-12.35 -0.75,-12.35 ; -0.75,-10.65 -1.45,-10.65 -1.45,-10.35 -0.75,-10.35 ; -0.75,-8.65 -1.45,-8.65 -1.45,-8.35 -0.75,-8.35 ; -0.75,-6.65 -1.45,-6.65 -1.45,-6.35 -0.75,-6.35 ; -0.75,-4.65 -1.45,-4.65 -1.45,-4.35 -0.75,-4.35 ; -0.75,-2.65 -1.45,-2.65 -1.45,-2.35 -0.75,-2.35 ; -0.75,-0.65 -1.45,-0.65 -1.45,-0.35 -0.75,-0.35 ; -0.75,1.35 -1.45,1.35 -1.45,1.65 -0.75,1.65 ; -0.75,3.35 -1.45,3.35 -1.45,3.65 -0.75,3.65 ; -0.75,5.35 -1.45,5.35 -1.45,5.65 -0.75,5.65 ; -0.75,7.35 -1.45,7.35 -1.45,7.65 -0.75,7.65 ; -0.75,9.35 -1.45,9.35 -1.45,9.65 -0.75,9.65 ; -0.75,11.35 -1.45,11.35 -1.45,11.65 -0.75,11.65 ; -0.75,13.35 -1.45,13.35 -1.45,13.65 -0.75,13.65 ; -0.75,15.35 -1.45,15.35 -1.45,15.65 -0.75,15.65 ; 0.75,-15.65 1.45,-15.65 1.45,-15.35 0.75,-15.35 ; 0.75,-13.65 1.45,-13.65 1.45,-13.35 0.75,-13.35 ; 0.75,-11.65 1.45,-11.65 1.45,-11.35 0.75,-11.35 ; 0.75,-9.65 1.45,-9.65 1.45,-9.35 0.75,-9.35 ; 0.75,-7.65 1.45,-7.65 1.45,-7.35 0.75,-7.35 ; 0.75,-5.65 1.45,-5.65 1.45,-5.35 0.75,-5.35 ; 0.75,-3.65 1.45,-3.65 1.45,-3.35 0.75,-3.35 ; 0.75,-1.65 1.45,-1.65 1.45,-1.35 0.75,-1.35 ; 0.75,0.35 1.45,0.35 1.45,0.65 0.75,0.65 ; 0.75,2.35 1.45,2.35 1.45,2.65 0.75,2.65 ; 0.75,4.35 1.45,4.35 1.45,4.65 0.75,4.65 ; 0.75,6.35 1.45,6.35 1.45,6.65 0.75,6.65 ; 0.75,8.35 1.45,8.35 1.45,8.65 0.75,8.65 ; 0.75,10.35 1.45,10.35 1.45,10.65 0.75,10.65 ; 0.75,12.35 1.45,12.35 1.45,12.65 0.75,12.65 ; 0.75,14.35 1.45,14.35 1.45,14.65 0.75,14.65 ; -0.75,-16.25 0.75,-16.25 0.75,16.25 -0.375,16.25 -0.75,15.875 -0.75,-16.25
  text "'.Designator'" at 0.761,-3.647 h0.9
Top Courtyard:
  lines w0.254: -2.45,-16.75 2.45,-16.75 2.45,16.75 -2.45,16.75 -2.45,-16.75
Top Designator:
  text ".Designator" at -7.618,-0.508 h1.52

## PinSocket_1x32_P1.00mm_Vertical_SMD_Pin1Right [mm]
pads (32):
  rect 1.95x0.5 smd: 1(0.975,15.5) 2(-0.975,14.5) 3(0.975,13.5) 4(-0.975,12.5) 5(0.975,11.5) 6(-0.975,10.5) 7(0.975,9.5) 8(-0.975,8.5) 9(0.975,7.5) 10(-0.975,6.5) 11(0.975,5.5) 12(-0.975,4.5) 13(0.975,3.5) 14(-0.975,2.5) 15(0.975,1.5) 16(-0.975,0.5) 17(0.975,-0.5) 18(-0.975,-1.5) 19(0.975,-2.5) 20(-0.975,-3.5) 21(0.975,-4.5) 22(-0.975,-5.5) 23(0.975,-6.5) 24(-0.975,-7.5) 25(0.975,-8.5) 26(-0.975,-9.5) 27(0.975,-10.5) 28(-0.975,-11.5) 29(0.975,-12.5) 30(-0.975,-13.5) 31(0.975,-14.5) 32(-0.975,-15.5)
F.SilkS:
  lines w0.254: -0.81,-16.01 -0.81,-16.31 0.81,-16.31 0.81,-15.01 ; -0.81,-14.99 -0.81,-14.01 ; -0.81,-12.99 -0.81,-12.01 ; -0.81,-10.99 -0.81,-10.01 ; -0.81,-8.99 -0.81,-8.01 ; -0.81,-6.99 -0.81,-6.01 ; -0.81,-4.99 -0.81,-4.01 ; -0.81,-2.99 -0.81,-2.01 ; -0.81,-0.99 -0.81,-0.01 ; -0.81,1.01 -0.81,1.99 ; -0.81,3.01 -0.81,3.99 ; -0.81,5.01 -0.81,5.99 ; -0.81,7.01 -0.81,7.99 ; -0.81,9.01 -0.81,9.99 ; -0.81,11.01 -0.81,11.99 ; -0.81,13.01 -0.81,13.99 ; -0.81,15.01 -0.81,16.31 0.81,16.31 0.81,16.01 1.89,16.01 ; 0.81,-13.99 0.81,-13.01 ; 0.81,-11.99 0.81,-11.01 ; 0.81,-9.99 0.81,-9.01 ; 0.81,-7.99 0.81,-7.01 ; 0.81,-5.99 0.81,-5.01 ; 0.81,-3.99 0.81,-3.01 ; 0.81,-1.99 0.81,-1.01 ; 0.81,0.01 0.81,0.99 ; 0.81,2.01 0.81,2.99 ; 0.81,4.01 0.81,4.99 ; 0.81,6.01 0.81,6.99 ; 0.81,8.01 0.81,8.99 ; 0.81,10.01 0.81,10.99 ; 0.81,12.01 0.81,12.99 ; 0.81,14.01 0.81,14.99
Top Assembly:
  lines w0.254: -0.75,-15.65 -1.45,-15.65 -1.45,-15.35 -0.75,-15.35 ; -0.75,-13.65 -1.45,-13.65 -1.45,-13.35 -0.75,-13.35 ; -0.75,-11.65 -1.45,-11.65 -1.45,-11.35 -0.75,-11.35 ; -0.75,-9.65 -1.45,-9.65 -1.45,-9.35 -0.75,-9.35 ; -0.75,-7.65 -1.45,-7.65 -1.45,-7.35 -0.75,-7.35 ; -0.75,-5.65 -1.45,-5.65 -1.45,-5.35 -0.75,-5.35 ; -0.75,-3.65 -1.45,-3.65 -1.45,-3.35 -0.75,-3.35 ; -0.75,-1.65 -1.45,-1.65 -1.45,-1.35 -0.75,-1.35 ; -0.75,0.35 -1.45,0.35 -1.45,0.65 -0.75,0.65 ; -0.75,2.35 -1.45,2.35 -1.45,2.65 -0.75,2.65 ; -0.75,4.35 -1.45,4.35 -1.45,4.65 -0.75,4.65 ; -0.75,6.35 -1.45,6.35 -1.45,6.65 -0.75,6.65 ; -0.75,8.35 -1.45,8.35 -1.45,8.65 -0.75,8.65 ; -0.75,10.35 -1.45,10.35 -1.45,10.65 -0.75,10.65 ; -0.75,12.35 -1.45,12.35 -1.45,12.65 -0.75,12.65 ; -0.75,14.35 -1.45,14.35 -1.45,14.65 -0.75,14.65 ; 0.75,-14.65 1.45,-14.65 1.45,-14.35 0.75,-14.35 ; 0.75,-12.65 1.45,-12.65 1.45,-12.35 0.75,-12.35 ; 0.75,-10.65 1.45,-10.65 1.45,-10.35 0.75,-10.35 ; 0.75,-8.65 1.45,-8.65 1.45,-8.35 0.75,-8.35 ; 0.75,-6.65 1.45,-6.65 1.45,-6.35 0.75,-6.35 ; 0.75,-4.65 1.45,-4.65 1.45,-4.35 0.75,-4.35 ; 0.75,-2.65 1.45,-2.65 1.45,-2.35 0.75,-2.35 ; 0.75,-0.65 1.45,-0.65 1.45,-0.35 0.75,-0.35 ; 0.75,1.35 1.45,1.35 1.45,1.65 0.75,1.65 ; 0.75,3.35 1.45,3.35 1.45,3.65 0.75,3.65 ; 0.75,5.35 1.45,5.35 1.45,5.65 0.75,5.65 ; 0.75,7.35 1.45,7.35 1.45,7.65 0.75,7.65 ; 0.75,9.35 1.45,9.35 1.45,9.65 0.75,9.65 ; 0.75,11.35 1.45,11.35 1.45,11.65 0.75,11.65 ; 0.75,13.35 1.45,13.35 1.45,13.65 0.75,13.65 ; 0.75,15.35 1.45,15.35 1.45,15.65 0.75,15.65 ; -0.75,-16.25 0.75,-16.25 0.75,15.875 0.375,16.25 -0.75,16.25 -0.75,-16.25
  text "'.Designator'" at 0.761,-3.647 h0.9
Top Courtyard:
  lines w0.254: -2.45,-16.75 2.45,-16.75 2.45,16.75 -2.45,16.75 -2.45,-16.75
Top Designator:
  text ".Designator" at -7.618,-0.508 h1.52

## PinSocket_1x33_P1.00mm_Vertical [mm]
pads (33):
  rect 0.85x0.85 hole 0.5: 1(0,0)
  round 0.85 hole 0.5: 2(0,-1) 3(0,-2) 4(0,-3) 5(0,-4) 6(0,-5) 7(0,-6) 8(0,-7) 9(0,-8) 10(0,-9) 11(0,-10) 12(0,-11) 13(0,-12) 14(0,-13) 15(0,-14) 16(0,-15) 17(0,-16) 18(0,-17) 19(0,-18) 20(0,-19) 21(0,-20) 22(0,-21) 23(0,-22) 24(0,-23) 25(0,-24) 26(0,-25) 27(0,-26) 28(0,-27) 29(0,-28) 30(0,-29) 31(0,-30) 32(0,-31) 33(0,-32)
F.SilkS:
  lines w0.254: -0.685,-0.5 -1.1,-0.5 -1.1,-32.81 0.52,-32.81 0.52,-32.446 ; 0,0.81 0.685,0.81 0.685,0 ; 0.52,-31.554 0.52,-31.446 ; 0.52,-30.554 0.52,-30.446 ; 0.52,-29.554 0.52,-29.446 ; 0.52,-28.554 0.52,-28.446 ; 0.52,-27.554 0.52,-27.446 ; 0.52,-26.554 0.52,-26.446 ; 0.52,-25.554 0.52,-25.446 ; 0.52,-24.554 0.52,-24.446 ; 0.52,-23.554 0.52,-23.446 ; 0.52,-22.554 0.52,-22.446 ; 0.52,-21.554 0.52,-21.446 ; 0.52,-20.554 0.52,-20.446 ; 0.52,-19.554 0.52,-19.446 ; 0.52,-18.554 0.52,-18.446 ; 0.52,-17.554 0.52,-17.446 ; 0.52,-16.554 0.52,-16.446 ; 0.52,-15.554 0.52,-15.446 ; 0.52,-14.554 0.52,-14.446 ; 0.52,-13.554 0.52,-13.446 ; 0.52,-12.554 0.52,-12.446 ; 0.52,-11.554 0.52,-11.446 ; 0.52,-10.554 0.52,-10.446 ; 0.52,-9.554 0.52,-9.446 ; 0.52,-8.554 0.52,-8.446 ; 0.52,-7.554 0.52,-7.446 ; 0.52,-6.554 0.52,-6.446 ; 0.52,-5.554 0.52,-5.446 ; 0.52,-4.554 0.52,-4.446 ; 0.52,-3.554 0.52,-3.446 ; 0.52,-2.554 0.52,-2.446 ; 0.52,-1.554 0.52,-1.446
Top Assembly:
  lines w0.254: -1.04,-32.75 0.46,-32.75 0.46,0.375 0.085,0.75 -1.04,0.75 -1.04,-32.75
  text "'.Designator'" at 0.471,-19.647 h0.9
Top Courtyard:
  lines w0.254: -1.54,-33.25 0.96,-33.25 0.96,1.25 -1.54,1.25 -1.54,-33.25
Top Designator:
  text ".Designator" at -7.908,-16.508 h1.52

## PinSocket_1x33_P1.00mm_Vertical_SMD_Pin1Left [mm]
pads (33):
  rect 1.95x0.5 smd: 1(-0.975,16) 2(0.975,15) 3(-0.975,14) 4(0.975,13) 5(-0.975,12) 6(0.975,11) 7(-0.975,10) 8(0.975,9) 9(-0.975,8) 10(0.975,7) 11(-0.975,6) 12(0.975,5) 13(-0.975,4) 14(0.975,3) 15(-0.975,2) 16(0.975,1) 17(-0.975,0) 18(0.975,-1) 19(-0.975,-2) 20(0.975,-3) 21(-0.975,-4) 22(0.975,-5) 23(-0.975,-6) 24(0.975,-7) 25(-0.975,-8) 26(0.975,-9) 27(-0.975,-10) 28(0.975,-11) 29(-0.975,-12) 30(0.975,-13) 31(-0.975,-14) 32(0.975,-15) 33(-0.975,-16)
F.SilkS:
  lines w0.254: -1.89,16.51 -0.81,16.51 -0.81,16.81 0.81,16.81 0.81,15.51 ; -0.81,-16.51 -0.81,-16.81 0.81,-16.81 0.81,-15.51 ; -0.81,-15.49 -0.81,-14.51 ; -0.81,-13.49 -0.81,-12.51 ; -0.81,-11.49 -0.81,-10.51 ; -0.81,-9.49 -0.81,-8.51 ; -0.81,-7.49 -0.81,-6.51 ; -0.81,-5.49 -0.81,-4.51 ; -0.81,-3.49 -0.81,-2.51 ; -0.81,-1.49 -0.81,-0.51 ; -0.81,0.51 -0.81,1.49 ; -0.81,2.51 -0.81,3.49 ; -0.81,4.51 -0.81,5.49 ; -0.81,6.51 -0.81,7.49 ; -0.81,8.51 -0.81,9.49 ; -0.81,10.51 -0.81,11.49 ; -0.81,12.51 -0.81,13.49 ; -0.81,14.51 -0.81,15.49 ; 0.81,-14.49 0.81,-13.51 ; 0.81,-12.49 0.81,-11.51 ; 0.81,-10.49 0.81,-9.51 ; 0.81,-8.49 0.81,-7.51 ; 0.81,-6.49 0.81,-5.51 ; 0.81,-4.49 0.81,-3.51 ; 0.81,-2.49 0.81,-1.51 ; 0.81,-0.49 0.81,0.49 ; 0.81,1.51 0.81,2.49 ; 0.81,3.51 0.81,4.49 ; 0.81,5.51 0.81,6.49 ; 0.81,7.51 0.81,8.49 ; 0.81,9.51 0.81,10.49 ; 0.81,11.51 0.81,12.49 ; 0.81,13.51 0.81,14.49
Top Assembly:
  lines w0.254: -0.75,-16.15 -1.45,-16.15 -1.45,-15.85 -0.75,-15.85 ; -0.75,-14.15 -1.45,-14.15 -1.45,-13.85 -0.75,-13.85 ; -0.75,-12.15 -1.45,-12.15 -1.45,-11.85 -0.75,-11.85 ; -0.75,-10.15 -1.45,-10.15 -1.45,-9.85 -0.75,-9.85 ; -0.75,-8.15 -1.45,-8.15 -1.45,-7.85 -0.75,-7.85 ; -0.75,-6.15 -1.45,-6.15 -1.45,-5.85 -0.75,-5.85 ; -0.75,-4.15 -1.45,-4.15 -1.45,-3.85 -0.75,-3.85 ; -0.75,-2.15 -1.45,-2.15 -1.45,-1.85 -0.75,-1.85 ; -0.75,-0.15 -1.45,-0.15 -1.45,0.15 -0.75,0.15 ; -0.75,1.85 -1.45,1.85 -1.45,2.15 -0.75,2.15 ; -0.75,3.85 -1.45,3.85 -1.45,4.15 -0.75,4.15 ; -0.75,5.85 -1.45,5.85 -1.45,6.15 -0.75,6.15 ; -0.75,7.85 -1.45,7.85 -1.45,8.15 -0.75,8.15 ; -0.75,9.85 -1.45,9.85 -1.45,10.15 -0.75,10.15 ; -0.75,11.85 -1.45,11.85 -1.45,12.15 -0.75,12.15 ; -0.75,13.85 -1.45,13.85 -1.45,14.15 -0.75,14.15 ; -0.75,15.85 -1.45,15.85 -1.45,16.15 -0.75,16.15 ; 0.75,-15.15 1.45,-15.15 1.45,-14.85 0.75,-14.85 ; 0.75,-13.15 1.45,-13.15 1.45,-12.85 0.75,-12.85 ; 0.75,-11.15 1.45,-11.15 1.45,-10.85 0.75,-10.85 ; 0.75,-9.15 1.45,-9.15 1.45,-8.85 0.75,-8.85 ; 0.75,-7.15 1.45,-7.15 1.45,-6.85 0.75,-6.85 ; 0.75,-5.15 1.45,-5.15 1.45,-4.85 0.75,-4.85 ; 0.75,-3.15 1.45,-3.15 1.45,-2.85 0.75,-2.85 ; 0.75,-1.15 1.45,-1.15 1.45,-0.85 0.75,-0.85 ; 0.75,0.85 1.45,0.85 1.45,1.15 0.75,1.15 ; 0.75,2.85 1.45,2.85 1.45,3.15 0.75,3.15 ; 0.75,4.85 1.45,4.85 1.45,5.15 0.75,5.15 ; 0.75,6.85 1.45,6.85 1.45,7.15 0.75,7.15 ; 0.75,8.85 1.45,8.85 1.45,9.15 0.75,9.15 ; 0.75,10.85 1.45,10.85 1.45,11.15 0.75,11.15 ; 0.75,12.85 1.45,12.85 1.45,13.15 0.75,13.15 ; 0.75,14.85 1.45,14.85 1.45,15.15 0.75,15.15 ; -0.75,-16.75 0.75,-16.75 0.75,16.75 -0.375,16.75 -0.75,16.375 -0.75,-16.75
  text "'.Designator'" at 0.761,-3.647 h0.9
Top Courtyard:
  lines w0.254: -2.45,-17.25 2.45,-17.25 2.45,17.25 -2.45,17.25 -2.45,-17.25
Top Designator:
  text ".Designator" at -7.618,-0.508 h1.52

## PinSocket_1x33_P1.00mm_Vertical_SMD_Pin1Right [mm]
pads (33):
  rect 1.95x0.5 smd: 1(0.975,16) 2(-0.975,15) 3(0.975,14) 4(-0.975,13) 5(0.975,12) 6(-0.975,11) 7(0.975,10) 8(-0.975,9) 9(0.975,8) 10(-0.975,7) 11(0.975,6) 12(-0.975,5) 13(0.975,4) 14(-0.975,3) 15(0.975,2) 16(-0.975,1) 17(0.975,0) 18(-0.975,-1) 19(0.975,-2) 20(-0.975,-3) 21(0.975,-4) 22(-0.975,-5) 23(0.975,-6) 24(-0.975,-7) 25(0.975,-8) 26(-0.975,-9) 27(0.975,-10) 28(-0.975,-11) 29(0.975,-12) 30(-0.975,-13) 31(0.975,-14) 32(-0.975,-15) 33(0.975,-16)
F.SilkS:
  lines w0.254: -0.81,-15.51 -0.81,-16.81 0.81,-16.81 0.81,-16.51 ; -0.81,-14.49 -0.81,-13.51 ; -0.81,-12.49 -0.81,-11.51 ; -0.81,-10.49 -0.81,-9.51 ; -0.81,-8.49 -0.81,-7.51 ; -0.81,-6.49 -0.81,-5.51 ; -0.81,-4.49 -0.81,-3.51 ; -0.81,-2.49 -0.81,-1.51 ; -0.81,-0.49 -0.81,0.49 ; -0.81,1.51 -0.81,2.49 ; -0.81,3.51 -0.81,4.49 ; -0.81,5.51 -0.81,6.49 ; -0.81,7.51 -0.81,8.49 ; -0.81,9.51 -0.81,10.49 ; -0.81,11.51 -0.81,12.49 ; -0.81,13.51 -0.81,14.49 ; -0.81,15.51 -0.81,16.81 0.81,16.81 0.81,16.51 1.89,16.51 ; 0.81,-15.49 0.81,-14.51 ; 0.81,-13.49 0.81,-12.51 ; 0.81,-11.49 0.81,-10.51 ; 0.81,-9.49 0.81,-8.51 ; 0.81,-7.49 0.81,-6.51 ; 0.81,-5.49 0.81,-4.51 ; 0.81,-3.49 0.81,-2.51 ; 0.81,-1.49 0.81,-0.51 ; 0.81,0.51 0.81,1.49 ; 0.81,2.51 0.81,3.49 ; 0.81,4.51 0.81,5.49 ; 0.81,6.51 0.81,7.49 ; 0.81,8.51 0.81,9.49 ; 0.81,10.51 0.81,11.49 ; 0.81,12.51 0.81,13.49 ; 0.81,14.51 0.81,15.49
Top Assembly:
  lines w0.254: -0.75,-15.15 -1.45,-15.15 -1.45,-14.85 -0.75,-14.85 ; -0.75,-13.15 -1.45,-13.15 -1.45,-12.85 -0.75,-12.85 ; -0.75,-11.15 -1.45,-11.15 -1.45,-10.85 -0.75,-10.85 ; -0.75,-9.15 -1.45,-9.15 -1.45,-8.85 -0.75,-8.85 ; -0.75,-7.15 -1.45,-7.15 -1.45,-6.85 -0.75,-6.85 ; -0.75,-5.15 -1.45,-5.15 -1.45,-4.85 -0.75,-4.85 ; -0.75,-3.15 -1.45,-3.15 -1.45,-2.85 -0.75,-2.85 ; -0.75,-1.15 -1.45,-1.15 -1.45,-0.85 -0.75,-0.85 ; -0.75,0.85 -1.45,0.85 -1.45,1.15 -0.75,1.15 ; -0.75,2.85 -1.45,2.85 -1.45,3.15 -0.75,3.15 ; -0.75,4.85 -1.45,4.85 -1.45,5.15 -0.75,5.15 ; -0.75,6.85 -1.45,6.85 -1.45,7.15 -0.75,7.15 ; -0.75,8.85 -1.45,8.85 -1.45,9.15 -0.75,9.15 ; -0.75,10.85 -1.45,10.85 -1.45,11.15 -0.75,11.15 ; -0.75,12.85 -1.45,12.85 -1.45,13.15 -0.75,13.15 ; -0.75,14.85 -1.45,14.85 -1.45,15.15 -0.75,15.15 ; 0.75,-16.15 1.45,-16.15 1.45,-15.85 0.75,-15.85 ; 0.75,-14.15 1.45,-14.15 1.45,-13.85 0.75,-13.85 ; 0.75,-12.15 1.45,-12.15 1.45,-11.85 0.75,-11.85 ; 0.75,-10.15 1.45,-10.15 1.45,-9.85 0.75,-9.85 ; 0.75,-8.15 1.45,-8.15 1.45,-7.85 0.75,-7.85 ; 0.75,-6.15 1.45,-6.15 1.45,-5.85 0.75,-5.85 ; 0.75,-4.15 1.45,-4.15 1.45,-3.85 0.75,-3.85 ; 0.75,-2.15 1.45,-2.15 1.45,-1.85 0.75,-1.85 ; 0.75,-0.15 1.45,-0.15 1.45,0.15 0.75,0.15 ; 0.75,1.85 1.45,1.85 1.45,2.15 0.75,2.15 ; 0.75,3.85 1.45,3.85 1.45,4.15 0.75,4.15 ; 0.75,5.85 1.45,5.85 1.45,6.15 0.75,6.15 ; 0.75,7.85 1.45,7.85 1.45,8.15 0.75,8.15 ; 0.75,9.85 1.45,9.85 1.45,10.15 0.75,10.15 ; 0.75,11.85 1.45,11.85 1.45,12.15 0.75,12.15 ; 0.75,13.85 1.45,13.85 1.45,14.15 0.75,14.15 ; 0.75,15.85 1.45,15.85 1.45,16.15 0.75,16.15 ; -0.75,-16.75 0.75,-16.75 0.75,16.375 0.375,16.75 -0.75,16.75 -0.75,-16.75
  text "'.Designator'" at 0.761,-3.647 h0.9
Top Courtyard:
  lines w0.254: -2.45,-17.25 2.45,-17.25 2.45,17.25 -2.45,17.25 -2.45,-17.25
Top Designator:
  text ".Designator" at -7.618,-0.508 h1.52